# EAGLE library part LM4916 (library Audio-Power-amlifier V.2.0)
LM4916 1.5V, Mono 85mW BTL Output, 14mW Stereo Headphone Audio Amplifier
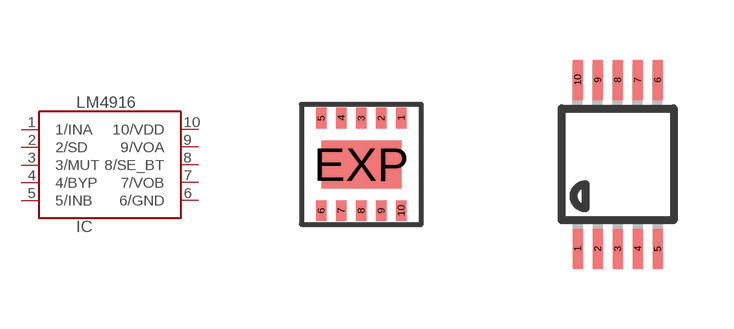
[diagram p199: symbol with the pads of LLP10-LDA10A; footprints LLP10-LDA10A, MSOP10]

Designator prefix IC

## LM4916LM4916LD  [LLP10-LDA10A]
1  1/INA  in
2  2/SD
3  3/MUT  in
4  4/BYP  in
5  5/INB  in
6  6/GND  pwr
7  7/VOB  out
8  8/SE_BT
9  9/VOA  out
10  10/VDD  pwr

## LM4916LM4916MM  [MSOP10]
Pads as for LLP10-LDA10A

## Footprint LLP10-LDA10A (pad centres in mm)
LLP10-LDA10A_3x3 body www.national.com
smd 0.26 x 0.52: 1 1,1.16; 2 0.5,1.16; 3 0,1.16; 4 -0.5,1.16; 5 -1,1.16; 6 -1,-1.16; 7 -0.5,-1.16; 8 0,-1.16; 9 0.5,-1.16; 10 1,-1.16
smd 2 x 1.2: EXP 0,0

## Footprint MSOP10 (pad centres in mm)
10-Lead Mini Small Outline Package [MSOP] MUB10A www.national.com
smd 0.25 x 1: 1 -1,-2.113; 2 -0.5,-2.113; 3 0,-2.113; 4 0.5,-2.113; 5 1,-2.113; 6 1,2.113; 7 0.5,2.113; 8 0,2.113; 9 -0.5,2.113; 10 -1,2.113